# Altium schematic symbol library PMV15ENEAR.SchLib: 1 symbol
Pins are listed as number, name and electrical type; pins without a type are passive.

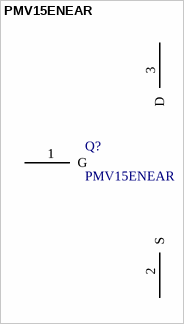
[diagram p0: symbol PMV15ENEAR]

## PMV15ENEAR
designator Q?
Small Signal Field-Effect Transistor; Manufacturer: Nexperia; Supplier: Future Electronics; Supplier Part Number: 9118140; Manufacturer Part Number: PMV15ENEAR; RoHS: No; Stock: 9000; Pricing: 3000=0.0999, 9000=0.096, 12000=0.095, 30000=0.0919, 45000=0.0889 (USD); RoHS Compliant: Yes; ComponentLink1URL: https://datasheet.ciiva.com:443/pdfs/VipMasterIC/IC/NEXP/NEXP-S-A0008146101/NEXP-S-A0008146101-1.pdf?src-supplier=IHS+Markit; ComponentLink1Description: https://datasheet.ciiva.com:443/pdfs/VipMasterIC/IC/NEXP/NEXP-S-A0008146101/NEXP-S-A0008146101-1.pdf?src-supplier=IHS+Markit; ComponentLink2URL: https://datasheet.octopart.com/PMV15ENEAR-Nexperia-datasheet-134844073.pdf?src-supplier=Future+Electronics; ComponentLink2Description: https://datasheet.octopart.com/PMV15ENEAR-Nexperia-datasheet-134844073.pdf?src-supplier=Future+Electronics
footprint SOT95P230X110-3M (SOT23, 3-Leads, Body 2.90x2.30mm, Pitch 0.95mm, IPC Low Density)
pins: 1 G, 2 S, 3 D